# EAGLE library part DS90LV028AQDQFRQ1 (library DS90LV028AQDQFRQ1)
LVDS Driver 5-Pin SOT-23 T/R Source: Datasheet <https://www.ti.com/lit/ds/symlink/ds90lv028a-q1.pdf?ts=1621932347476&ref_url=https%3A%2F%2Fwww.ti.com%2Fstore%2Fti%2Fen%2Fp%2Fproduct%2F%3Fp%3DDS90LV028AQDQFRQ1>
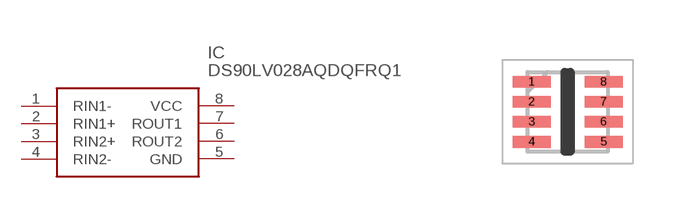
[diagram p0: symbol with the pads of SON50P200X200X80-8N; footprint SON50P200X200X80-8N]

Designator prefix IC

## DS90LV028AQDQFRQ1 (Description: LVDS Driver 5-Pin SOT-23 T/R; Height: 0.8mm; Manufacturer_Name: Texas Instruments; Manufacturer_Part_Number: DS90LV028AQDQFRQ1; Mouser_Part_Number: 595-S90LV028AQDQFRQ1; Mouser_Price-Stock: https://www.mouser.co.uk/ProductDetail/Texas-Instruments/DS90LV028AQDQFRQ1?qs=BJlw7L4Cy79pzlV0%2FL5zww%3D%3D)  [SON50P200X200X80-8N]
1  RIN1-
2  RIN1+
3  RIN2+
4  RIN2-
5  GND
6  ROUT2
7  ROUT1
8  VCC

## Footprint SON50P200X200X80-8N (pad centres in mm)
DQF0008A
smd 0.95 x 0.3: 1 -0.9,0.75; 2 -0.9,0.25; 3 -0.9,-0.25; 4 -0.9,-0.75; 5 0.9,-0.75; 6 0.9,-0.25; 7 0.9,0.25; 8 0.9,0.75